# Altium footprint library WCAP-ASNP.PcbLib: 7 footprints
Each footprint in its own frame and in the unit in brackets; x right, y up, seen from the top. Pads: shape width x height; smd on the part's side, far side on the other; paste and mask are expansions set on the pad; w line width, h text height; cw(c..) or ccw(c..) is an arc to the next point about the centre after c.
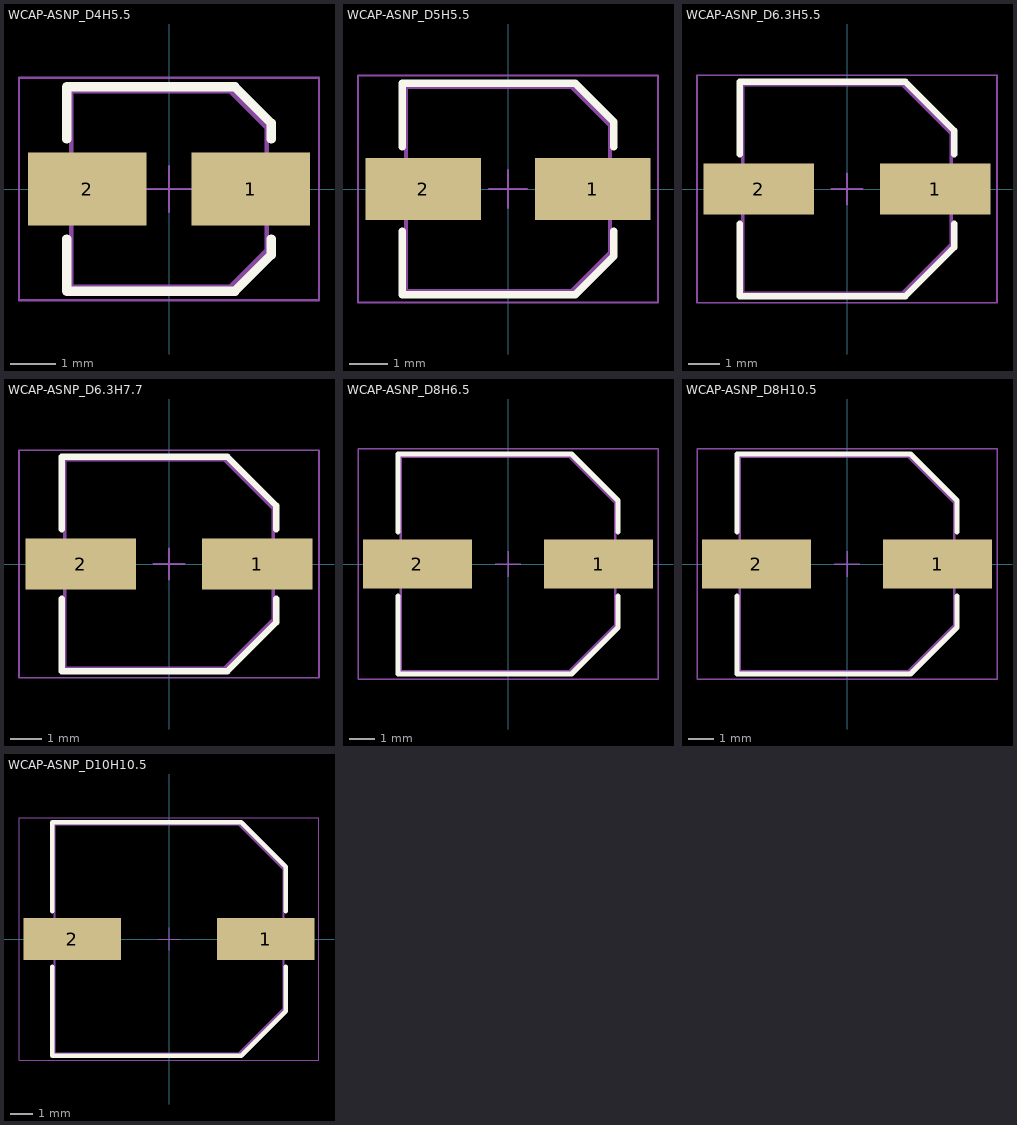
[diagram p0: the footprints below, top view; thin cyan lines are the x and y axes]

## WCAP-ASNP_D4H5.5 [mm] "Aluminum Electrolytic Capacitors, 4x5.5mm"
height 5.5
pads (2):
  rect 2.6x1.6 smd: 1(1.8,0) 2(-1.8,0)
Top Overlay:
  lines w0.2: -2.25,-1.1 -2.25,-2.25 1.45,-2.25 2.25,-1.45 2.25,-1.1 ; -2.25,1.1 -2.25,2.25 1.45,2.25 2.25,1.45 2.25,1.1
Top Designator:
  text ".Designator" at -4.998,-0.333 h1
Top Component Outline:
  lines w0.1: -2.15,-2.15 1.35,-2.15 2.15,-1.35 2.15,1.35 1.35,2.15 -2.15,2.15 -2.15,-2.15
Top 3D Body:
  lines w0.1: -2.15,-2.15 1.35,-2.15 2.15,-1.35 2.15,1.35 1.35,2.15 -2.15,2.15 -2.15,-2.15
Top Courtyard:
  lines w0.05: -0.5,0 0.5,0 ; 0,-0.5 0,0.5 ; -3.3,-2.45 -3.3,2.45 3.3,2.45 3.3,-2.45 -3.3,-2.45
3D body "D4H5.5.stp": height 5.5, standoff 0, extent -2.5,-2.15 2.5,2.15

## WCAP-ASNP_D5H5.5 [mm] "Aluminum Electrolytic Capacitors, 5x5.5mm"
height 5.5
pads (2):
  rect 3x1.6 smd: 1(2.2,0) 2(-2.2,0)
Top Overlay:
  lines w0.2: -2.75,-1.1 -2.75,-2.75 1.75,-2.75 2.75,-1.75 2.75,-1.1 ; -2.75,1.1 -2.75,2.75 1.75,2.75 2.75,1.75 2.75,1.1
Top Designator:
  text ".Designator" at -5.998,-0.4 h1.2
Top Component Outline:
  lines w0.1: -2.65,-2.65 -2.65,2.65 1.65,2.65 2.65,1.65 2.65,-1.65 1.65,-2.65 -2.65,-2.65
Top 3D Body:
  lines w0.1: -2.65,-2.65 -2.65,2.65 1.65,2.65 2.65,1.65 2.65,-1.65 1.65,-2.65 -2.65,-2.65
Top Courtyard:
  lines w0.05: -0.5,0 0.5,0 ; 0,-0.5 0,0.5 ; -3.9,-2.95 3.9,-2.95 3.9,2.95 -3.9,2.95 -3.9,-2.95
3D body "D5H5.5.stp": height 5.5, standoff 0, extent -3,-2.65 3,2.65

## WCAP-ASNP_D6.3H5.5 [mm] "Aluminum Electrolytic Capacitors, 6.3x5.5mm"
height 5.5
pads (2):
  rect 3.5x1.6 smd: 1(2.8,0) 2(-2.8,0)
Top Overlay:
  lines w0.2: -3.4,-1.1 -3.4,-3.4 1.85,-3.4 3.4,-1.85 3.4,-1.1 ; -3.4,1.1 -3.4,3.4 1.85,3.4 3.4,1.85 3.4,1.1
Top Designator:
  text ".Designator" at -7.498,-0.5 h1.5
Top Component Outline:
  lines w0.1: -3.3,-3.3 1.75,-3.3 3.3,-1.75 3.3,1.75 1.75,3.3 -3.3,3.3 -3.3,-3.3
Top 3D Body:
  lines w0.1: -3.3,-3.3 1.75,-3.3 3.3,-1.75 3.3,1.75 1.75,3.3 -3.3,3.3 -3.3,-3.3
Top Courtyard:
  lines w0.05: -0.5,0 0.5,0 ; 0,-0.5 0,0.5 ; -4.75,-3.6 -4.75,3.6 4.75,3.6 4.75,-3.6 -4.75,-3.6
3D body "D6.3H5.5.stp": height 5.5, standoff 0, extent -3.65,-3.3 3.65,3.3

## WCAP-ASNP_D6.3H7.7 [mm] "Aluminum Electrolytic Capacitors, 6.3x7.7mm"
height 7.7
pads (2):
  rect 3.5x1.6 smd: 1(2.8,0) 2(-2.8,0)
Top Overlay:
  lines w0.2: -3.4,-1.1 -3.4,-3.4 1.85,-3.4 3.4,-1.85 3.4,-1.1 ; -3.4,1.1 -3.4,3.4 1.85,3.4 3.4,1.85 3.4,1.1
Top Designator:
  text ".Designator" at -7.498,-0.5 h1.5
Top Component Outline:
  lines w0.1: -3.3,-3.3 1.75,-3.3 3.3,-1.75 3.3,1.75 1.75,3.3 -3.3,3.3 -3.3,-3.3
Top 3D Body:
  lines w0.1: -3.3,-3.3 1.75,-3.3 3.3,-1.75 3.3,1.75 1.75,3.3 -3.3,3.3 -3.3,-3.3
Top Courtyard:
  lines w0.05: -0.5,0 0.5,0 ; 0,-0.5 0,0.5 ; -4.75,-3.6 -4.75,3.6 4.75,3.6 4.75,-3.6 -4.75,-3.6
3D body "D6.3H7.7.stp": height 7.7, standoff 0, extent -3.65,-3.3 3.65,3.3

## WCAP-ASNP_D8H6.5 [mm] "Aluminum Electrolytic Capacitors, 8x6.5mm"
height 6.5
pads (2):
  rect 4.2x1.9 smd: 1(3.5,0) 2(-3.5,0)
Top Overlay:
  lines w0.2: -4.25,-1.25 -4.25,-4.25 2.45,-4.25 4.25,-2.45 4.25,-1.25 ; -4.25,1.25 -4.25,4.25 2.45,4.25 4.25,2.45 4.25,1.25
Top Designator:
  text ".Designator" at -7.498,-0.5 h1.5
Top Component Outline:
  lines w0.1: -4.15,-4.15 -4.15,4.15 2.35,4.15 4.15,2.35 4.15,-2.35 2.35,-4.15 -4.15,-4.15
Top 3D Body:
  lines w0.1: -4.15,-4.15 -4.15,4.15 2.35,4.15 4.15,2.35 4.15,-2.35 2.35,-4.15 -4.15,-4.15
Top Courtyard:
  lines w0.05: -0.5,0 0.5,0 ; 0,-0.5 0,0.5 ; -5.8,-4.45 5.8,-4.45 5.8,4.45 -5.8,4.45 -5.8,-4.45
3D body "D8H6.5.stp": height 6.47, standoff -0.03, extent -4.5,-4.15 4.5,4.15

## WCAP-ASNP_D8H10.5 [mm] "Aluminum Electrolytic Capacitors, 8x10.5mm"
height 10.5
pads (2):
  rect 4.2x1.9 smd: 1(3.5,0) 2(-3.5,0)
Top Overlay:
  lines w0.2: -4.25,-1.25 -4.25,-4.25 2.45,-4.25 4.25,-2.45 4.25,-1.25 ; -4.25,1.25 -4.25,4.25 2.45,4.25 4.25,2.45 4.25,1.25
Top Designator:
  text ".Designator" at -7.498,-0.5 h1.5
Top Component Outline:
  lines w0.1: -4.15,-4.15 -4.15,4.15 2.35,4.15 4.15,2.35 4.15,-2.35 2.35,-4.15 -4.15,-4.15
Top 3D Body:
  lines w0.1: -4.15,-4.15 -4.15,4.15 2.35,4.15 4.15,2.35 4.15,-2.35 2.35,-4.15 -4.15,-4.15
Top Courtyard:
  lines w0.05: -0.5,0 0.5,0 ; 0,-0.5 0,0.5 ; -5.8,-4.45 5.8,-4.45 5.8,4.45 -5.8,4.45 -5.8,-4.45
3D body "D8H10.5.stp": height 10.5, standoff 0, extent -4.5,-4.15 4.5,4.15

## WCAP-ASNP_D10H10.5 [mm] "Aluminum Electrolytic Capacitors, 10x10.5mm"
height 10.5
pads (2):
  rect 4.4x1.9 smd: 1(4.35,0) 2(-4.35,0)
Top Overlay:
  lines w0.2: -5.25,-1.25 -5.25,-5.25 3.25,-5.25 5.25,-3.25 5.25,-1.25 ; -5.25,1.25 -5.25,5.25 3.25,5.25 5.25,3.25 5.25,1.25
Top Designator:
  text ".Designator" at -7.498,-0.5 h1.5
Top Component Outline:
  lines w0.1: -5.15,-5.15 -5.15,5.15 3.15,5.15 5.15,3.15 5.15,-3.15 3.15,-5.15 -5.15,-5.15
Top 3D Body:
  lines w0.1: -5.15,-5.15 -5.15,5.15 3.15,5.15 5.15,3.15 5.15,-3.15 3.15,-5.15 -5.15,-5.15
Top Courtyard:
  lines w0.05: -0.5,0 0.5,0 ; 0,-0.5 0,0.5 ; -6.75,-5.45 6.75,-5.45 6.75,5.45 -6.75,5.45 -6.75,-5.45
3D body "D10H10.5.stp": height 10.5, standoff 0, extent -5.5,-5.15 5.5,5.15